# Altium footprint library QFN300X300X100-16N.PcbLib: 1 footprints
Each footprint in its own frame and in the unit in brackets; x right, y up, seen from the top. Pads: shape width x height; smd on the part's side, far side on the other; paste and mask are expansions set on the pad; w line width, h text height; cw(c..) or ccw(c..) is an arc to the next point about the centre after c.
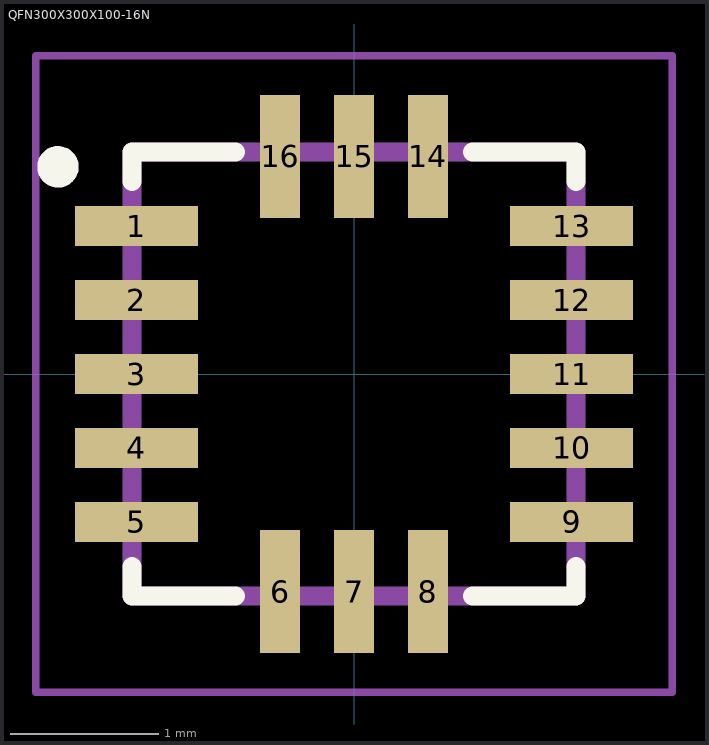
[diagram p0: the footprint, top view; thin cyan lines are the x and y axes]

## QFN300X300X100-16N [mm]
pads (16):
  rect 0.83x0.27 smd: 1(-1.47,1) 2(-1.47,0.5) 3(-1.47,0) 4(-1.47,-0.5) 5(-1.47,-1) 9(1.47,-1) 10(1.47,-0.5) 11(1.47,0) 12(1.47,0.5) 13(1.47,1)
  rect 0.27x0.83 smd: 6(-0.5,-1.47) 7(0,-1.47) 8(0.5,-1.47) 14(0.5,1.47) 15(0,1.47) 16(-0.5,1.47)
Top Overlay:
  circle w0.14: c-2,1.4 r0.07
  lines w0.127: -1.5,-1.3 -1.5,-1.5 -0.8,-1.5 ; -1.5,1.3 -1.5,1.5 -0.8,1.5 ; 0.8,-1.5 1.5,-1.5 1.5,-1.3 ; 0.8,1.5 1.5,1.5 1.5,1.3
Mechanical 13:
  lines w0.127: -1.5,-1.5 -1.5,1.5 1.5,1.5 1.5,-1.5 -1.5,-1.5
Mechanical 15:
  lines w0.05: -2.15,-2.15 -2.15,2.15 2.15,2.15 2.15,-2.15 -2.15,-2.15